# Altium schematic symbol library Components - 10.10.19 - 14.20.SchLib: 1 symbol
Pins are listed as number, name and electrical type; pins without a type are passive.

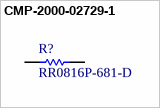
[diagram p0: symbol CMP-2000-02729-1]

## CMP-2000-02729-1
designator R?, comment RR0816P-681-D
Manufacturer: Susumu; Part Number: RR0816P-681-D
footprint RESC1608X50X30LL20T20 (Chip Resistor, 2-Leads, Body 1.60x0.80mm, IPC High Density)
footprint RESC1608X50X30NL20T20 (Chip Resistor, 2-Leads, Body 1.60x0.80mm, IPC Medium Density)
footprint RESC1608X50X30ML20T20 (Chip Resistor, 2-Leads, Body 1.60x0.80mm, IPC Low Density)
pins: 1, 2
1 alternate drawing of the same symbol